# EAGLE library part SIM800L-V1 (library sim800l-v1)
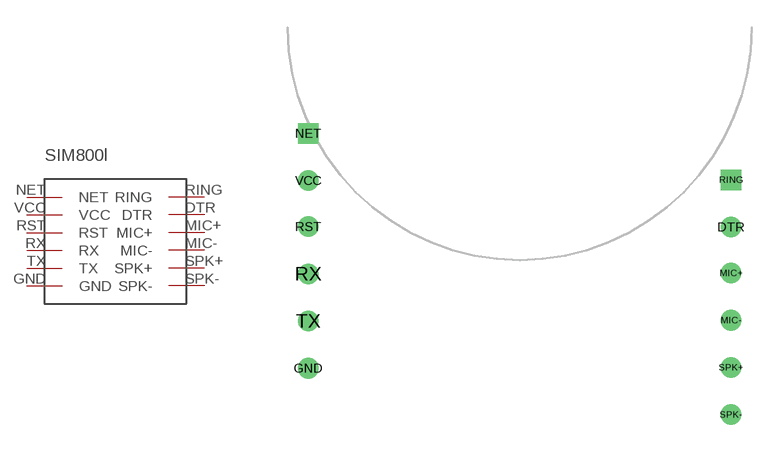
[diagram p0: symbol with the pads of SIM800L-V1; footprint SIM800L-V1]

Designator prefix -

## SIM800L-V1  [SIM800L-V1]
DTR  DTR
GND  GND
MIC+  MIC+
MIC-  MIC-
NET  NET
RING  RING
RST  RST
RX  RX
SPK+  SPK+
SPK-  SPK-
TX  TX
VCC  VCC

## Footprint SIM800L-V1 (pad centres in mm)
drill 0.6: DTR 23.88,-10.72; GND 1.11,-18.32; MIC+ 23.88,-13.2; MIC- 23.88,-15.74; RST 1.11,-10.7; RX 1.11,-13.24; SPK+ 23.88,-18.28; SPK- 23.88,-20.82; TX 1.11,-15.78; VCC 1.11,-8.22
drill 0.6 square: NET 1.11,-5.68; RING 23.88,-8.18